# Altium schematic symbol library parts.SchLib: 4 symbols
Pins are listed as number, name and electrical type; pins without a type are passive.

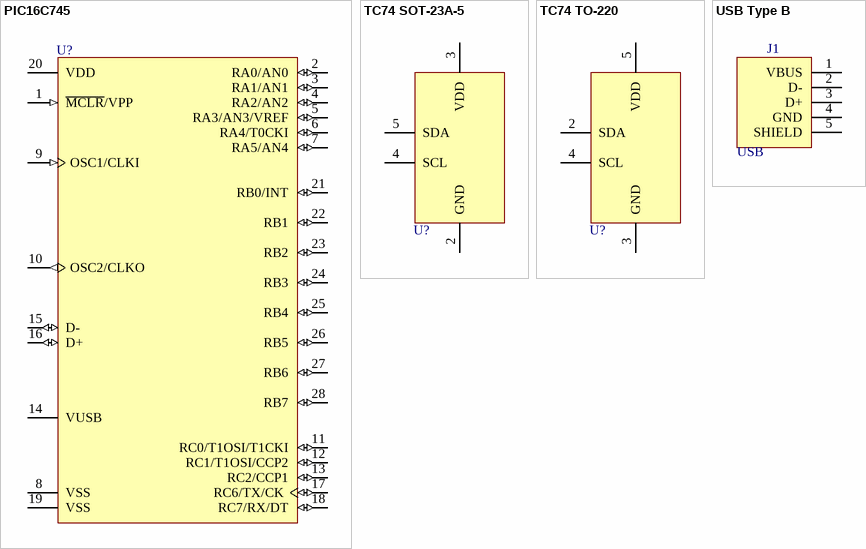
[diagram p0: symbols PIC16C745 to USB Type B]

## PIC16C745
designator U?
EPROM-Based 8-Bit CMOS Microcontroller with USB; Manufacturer: Microchip; Revision: Modified for PIC16C745 by Micah Dowty; Package Reference: P40; Class I: Microcontroller; Class II: 8-bit
footprint DIP-28
pins: 1 ~{MCLR}/VPP (in), 2 RA0/AN0 (io), 3 RA1/AN1 (io), 4 RA2/AN2 (io), 5 RA3/AN3/VREF (io), 6 RA4/T0CKI (io), 7 RA5/AN4 (io), 8 VSS (power), 9 OSC1/CLKI (in), 10 OSC2/CLKO (out), 11 RC0/T1OSI/T1CKI (io), 12 RC1/T1OSI/CCP2 (io), 13 RC2/CCP1 (io), 14 VUSB (power), 15 D- (io), 16 D+ (io), 17 RC6/TX/CK (io), 18 RC7/RX/DT (io), 19 VSS (power), 20 VDD (power), 21 RB0/INT (io), 22 RB1 (io), 23 RB2 (io), 24 RB3 (io), 25 RB4 (io), 26 RB5 (io), 27 RB6 (io), 28 RB7 (io)

## TC74 SOT-23A-5
designator U?
footprint SO-G5/Z3.6
pins: 2 GND, 3 VDD, 4 SCL, 5 SDA

## TC74 TO-220
designator U?
footprint SFM-T5/A4.6V
pins: 2 SDA, 3 GND, 4 SCL, 5 VDD

## USB Type B
designator J1, comment USB
Header, 4-Pin; Manufacturer: Generic Components; Class I: Connector; Revision: July-2002: Re-released for DXP Platform.; Publisher: Altium Limited
signal-integrity model Connector
footprint USB-TYPEB
pins: 1 VBUS, 2 D-, 3 D+, 4 GND, 5 SHIELD (power)